# EAGLE library part 7407 (library A3660)
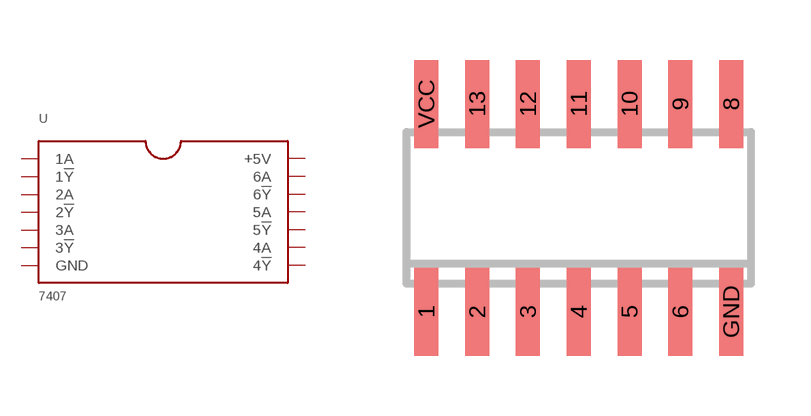
[diagram p15: symbol with the pads of 7407; footprint 7407]

Designator prefix -

## 7407  [7407]
1  1!Y
2  1A
3  2!Y
4  2A
5  3!Y
6  3A
8  4!Y
9  4A
10  5!Y
11  5A
12  6!Y
13  6A
GND  GND
VCC  +5V  pwr

## Footprint 7407 (pad centres in mm)
smd 0.6 x 2.2: 1 -3.175,-2.6; 2 -1.905,-2.6; 3 -0.635,-2.6; 4 0.635,-2.6; 5 1.905,-2.6; 6 3.175,-2.6; 8 4.445,2.6; 9 3.175,2.6; 10 1.905,2.6; 11 0.635,2.6; 12 -0.635,2.6; 13 -1.905,2.6; GND 4.445,-2.6; VCC -3.175,2.6